# EAGLE library part ARDUINO-MICRO (library breakout)
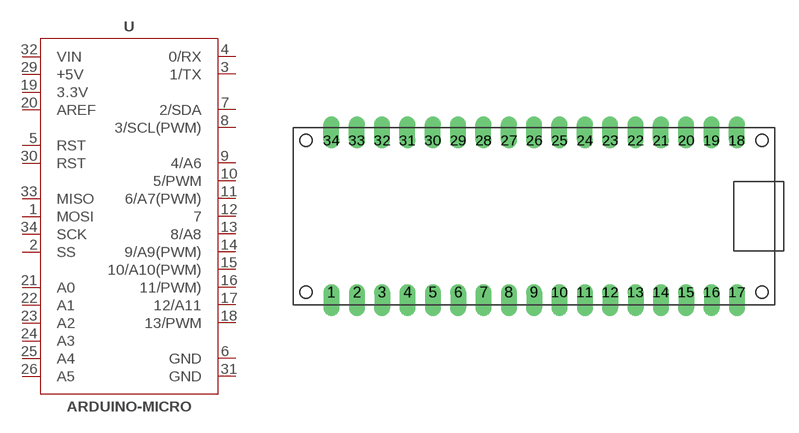
[diagram p0: symbol with the pads of ARDUINO-MICRO; footprint ARDUINO-MICRO]

Designator prefix -

## ARDUINO-MICRO  [ARDUINO-MICRO]
1  MOSI
2  SS
3  1/TX  out
4  0/RX  in
5  RST
6  GND  pwr
7  2/SDA
8  3/SCL(PWM)
9  4/A6
10  5/PWM
11  6/A7(PWM)
12  7
13  8/A8
14  9/A9(PWM)
15  10/A10(PWM)
16  11/PWM)
17  12/A11
18  13/PWM
19  3.3V  pwr
20  AREF  in
21  A0
22  A1
23  A2
24  A3
25  A4
26  A5
29  +5V  pwr
30  RST
31  GND  pwr
32  VIN  pwr
33  MISO
34  SCK

## Footprint ARDUINO-MICRO (pad centres in mm)
drill 1 pad 1.6 offset: 1 -20.32,-7.62; 2 -17.78,-7.62; 3 -15.24,-7.62; 4 -12.7,-7.62; 5 -10.16,-7.62; 6 -7.62,-7.62; 7 -5.08,-7.62; 8 -2.54,-7.62; 9 0,-7.62; 10 2.54,-7.62; 11 5.08,-7.62; 12 7.62,-7.62; 13 10.16,-7.62; 14 12.7,-7.62; 15 15.24,-7.62; 16 17.78,-7.62; 17 20.32,-7.62; 18 20.32,7.62; 19 17.78,7.62; 20 15.24,7.62; 21 12.7,7.62; 22 10.16,7.62; 23 7.62,7.62; 24 5.08,7.62; 25 2.54,7.62; 26 0,7.62; 27 -2.54,7.62; 28 -5.08,7.62; 29 -7.62,7.62; 30 -10.16,7.62; 31 -12.7,7.62; 32 -15.24,7.62; 33 -17.78,7.62; 34 -20.32,7.62